# Altium schematic symbol library TLE4275D.SchLib: 1 symbol
Pins are listed as number, name and electrical type; pins without a type are passive.

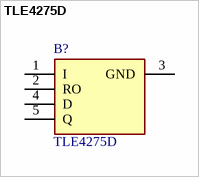
[diagram p0: symbol TLE4275D]

## TLE4275D
designator B?
LDO Voltage Regulators LW Drop Fixed VOLT REGULATOR 200mA 5V; Manufacturer_Name: Infineon; Geometry.Height: 2.5mm; Manufacturer_Part_Number: TLE4275D; Mouser Part Number: 726-TLE4275D; Mouser Price/Stock: https://www.mouser.co.uk/ProductDetail/Infineon-Technologies/TLE4275D?qs=3D22qUCSisCm%252B2ao74XBfA%3D%3D; Arrow Part Number: *; Arrow Price/Stock: *; Datasheet Link: https://www.infineon.com/dgdl/Infineon-TLE4275V50-DS-v01_07-en%5B1%5D.pdf?fileId=db3a304412b407950112b437f96169d5
footprint TLE4275D
pins: 1 I, 2 RO, 3 GND, 4 D, 5 Q